# EAGLE library part PINHD-1X15 (library pinhead-new)
PIN HEADER
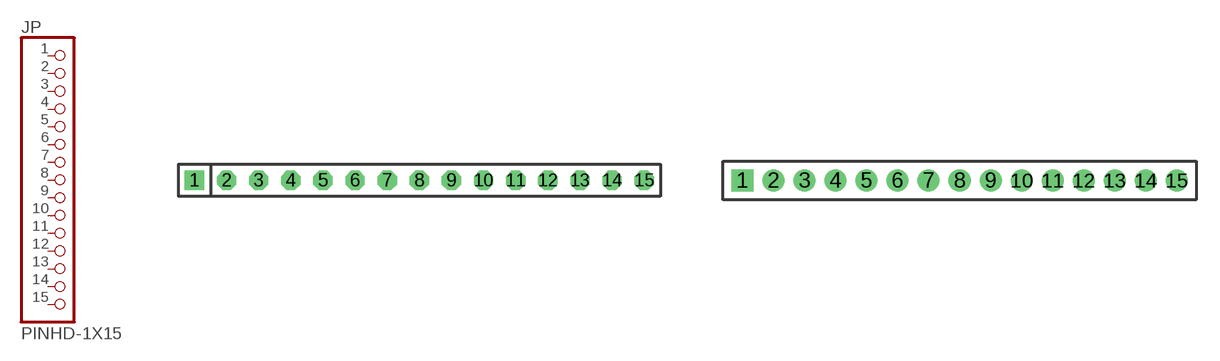
[diagram p10: symbol with the pads of 1X15; footprints 1X15, 1X15M]

Designator prefix JP

## PINHD-1X15  [1X15]
1  1  pas
2  2  pas
3  3  pas
4  4  pas
5  5  pas
6  6  pas
7  7  pas
8  8  pas
9  9  pas
10  10  pas
11  11  pas
12  12  pas
13  13  pas
14  14  pas
15  15  pas

## PINHD-1X15M  [1X15M]
Pads as for 1X15

## Footprint 1X15 (pad centres in mm)
PIN HEADER - 0.1"
drill 1.016 square: 1 -17.78,0
drill 1.016 octagon: 2 -15.24,0; 3 -12.7,0; 4 -10.16,0; 5 -7.62,0; 6 -5.08,0; 7 -2.54,0; 8 0,0; 9 2.54,0; 10 5.08,0; 11 7.62,0; 12 10.16,0; 13 12.7,0; 14 15.24,0; 15 17.78,0

## Footprint 1X15M (pad centres in mm)
PIN HEADER - 2MM"
drill 0.914 square: 1 -14,0
drill 0.914 round: 2 -12,0; 3 -10,0; 4 -8,0; 5 -6,0; 6 -4,0; 7 -2,0; 8 0,0; 9 2,0; 10 4,0; 11 6,0; 12 8,0; 13 10,0; 14 12,0; 15 14,0